# EAGLE library part 4JALOUSIE (library e-freebus)
4JALOUSIE Freebus
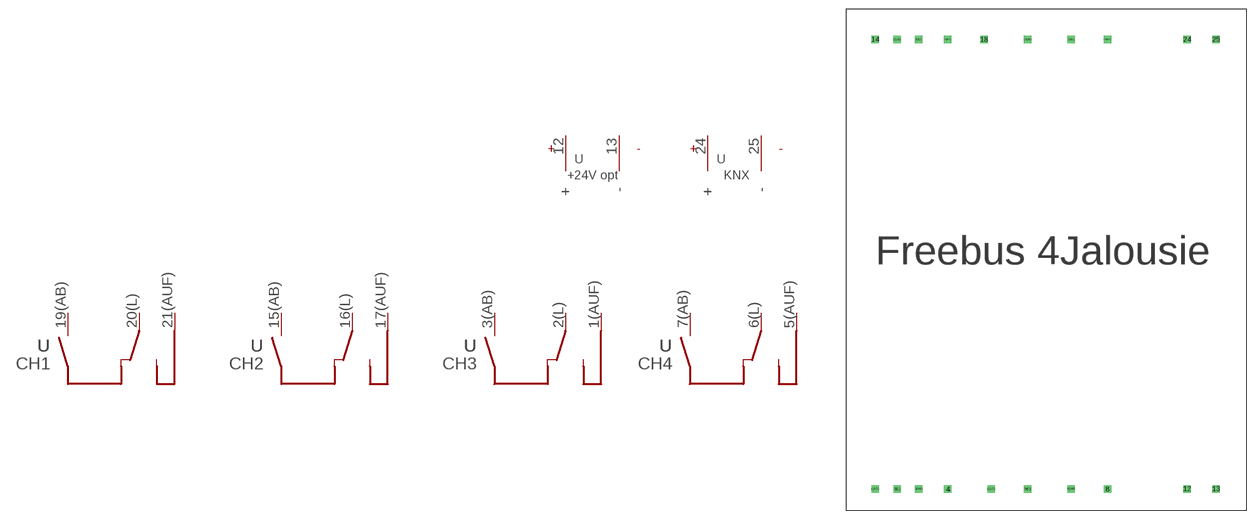
[diagram p1: symbol with the pads of 4JALOUSIE; footprint 4JALOUSIE]

Designator prefix -; gates CH1=PHASENWENDER CH2=PHASENWENDER CH3=PHASENWENDER CH4=PHASENWENDER KNX=BUS EXTPOW=EXTPOW

## 4JALOUSIE  [4JALOUSIE]
1(AUF)  CH3:AUF  pas
2(L)  CH3:L  pas
3(AB)  CH3:AB  pas
5(AUF)  CH4:AUF  pas
6(L)  CH4:L  pas
7(AB)  CH4:AB  pas
12  EXTPOW:+  pwr
13  EXTPOW:-  pwr
15(AB)  CH2:AB  pas
16(L)  CH2:L  pas
17(AUF)  CH2:AUF  pas
19(AB)  CH1:AB  pas
20(L)  CH1:L  pas
21(AUF)  CH1:AUF  pas
24  KNX:+  in
25  KNX:-  in

## Footprint 4JALOUSIE (pad centres in mm)
drill 0.8 square: 1(AUF) 5.08,3.81; 2(L) 8.89,3.81; 3(AB) 12.7,3.81; 4 17.78,3.81; 5(AUF) 25.4,3.81; 6(L) 31.75,3.81; 7(AB) 39.37,3.81; 8 45.72,3.81; 12 59.69,3.81; 13 64.77,3.81; 14 5.08,82.55; 15(AB) 8.89,82.55; 16(L) 12.7,82.55; 17(AUF) 17.78,82.55; 18 24.13,82.55; 19(AB) 31.75,82.55; 20(L) 39.37,82.55; 21(AUF) 45.72,82.55; 24 59.69,82.55; 25 64.77,82.55